# EAGLE library part IC-USB-FSUSB74 (library mylib)
4 to 1 USB switch
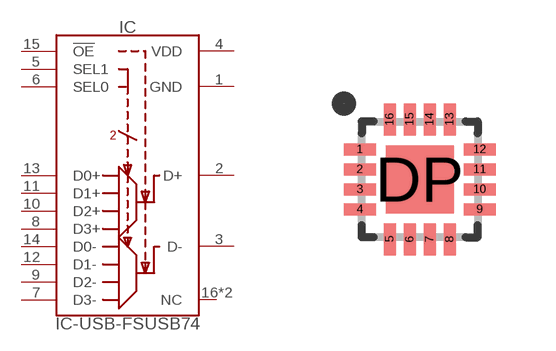
[diagram p113: symbol with the pads of QFN16-0.5P3.0X3.0; footprint QFN16-0.5P3.0X3.0]

Designator prefix IC

## IC-USB-FSUSB74 (DIGIKEY: FSUSB74MPXCT-ND; SMD-PAD: 17)  [QFN16-0.5P3.0X3.0]
1  GND  pwr
2  D+
3  D-
4  VDD  pwr
5  SEL1  in
6  SEL0  in
7  D3-
8  D3+
9  D2-
10  D2+
11  D1+
12  D1-
13  D0+
14  D0-
15  !OE!  in
16  NC  nc
DP  NC  nc

## Footprint QFN16-0.5P3.0X3.0 (pad centres in mm)
smd 0.8 x 0.3: 1 -1.5,0.75; 2 -1.5,0.25; 3 -1.5,-0.25; 4 -1.5,-0.75; 9 1.5,-0.75; 10 1.5,-0.25; 11 1.5,0.25; 12 1.5,0.75
smd 0.3 x 0.8: 5 -0.75,-1.5; 6 -0.25,-1.5; 7 0.25,-1.5; 8 0.75,-1.5; 13 0.75,1.5; 14 0.25,1.5; 15 -0.25,1.5; 16 -0.75,1.5
smd 1.7 x 1.7: DP 0,0